# Altium footprint library Chip Components.PcbLib: 38 footprints (part 2 of 3)
Each footprint in its own frame and in the unit in brackets; x right, y up, seen from the top. Pads: shape width x height; smd on the part's side, far side on the other; paste and mask are expansions set on the pad; w line width, h text height; cw(c..) or ccw(c..) is an arc to the next point about the centre after c.
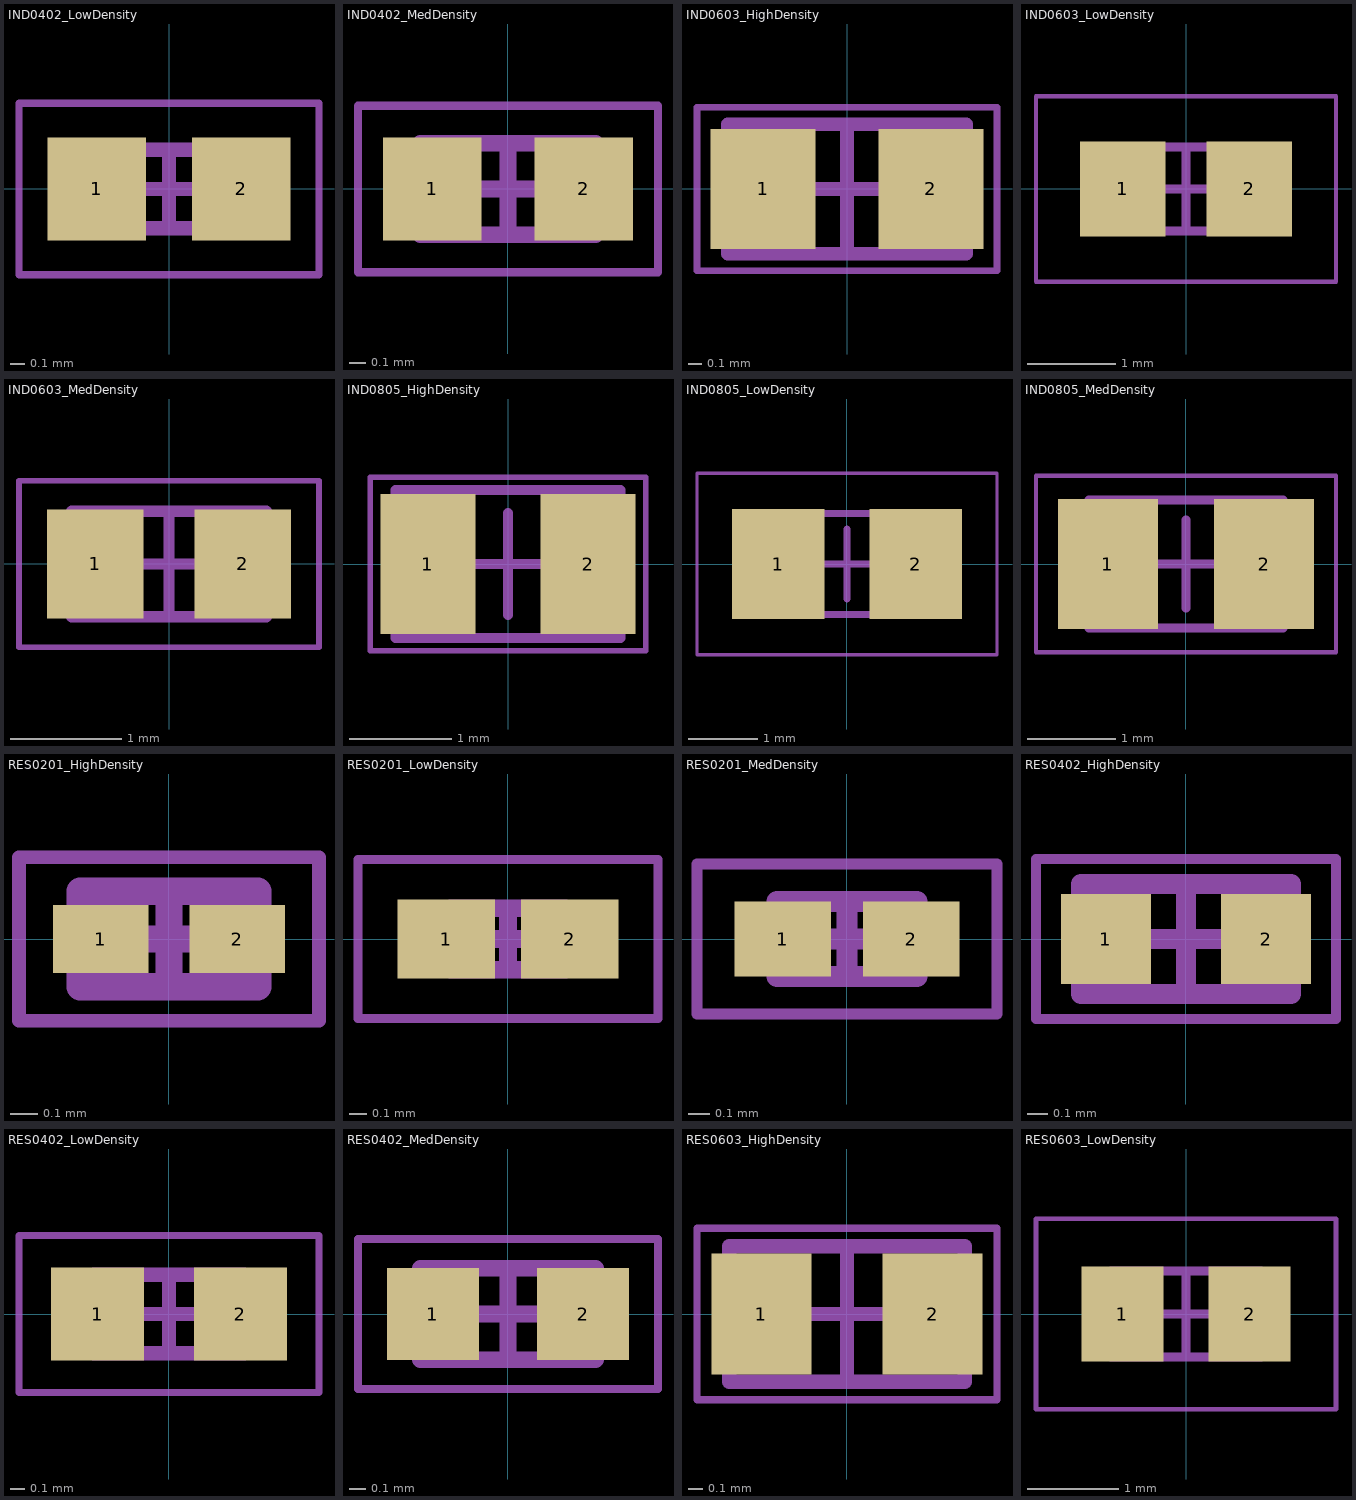
[diagram p1: the footprints below, top view; thin cyan lines are the x and y axes]

## IND0402_LowDensity [mm] "Chip Inductor, 2-Leads, Body 1,00x0,50mm, IPC Low Density"
height 0.55
pads (2):
  rect 0.69x0.72 smd: 1(-0.505,0) 2(0.505,0)
Mechanical 13:
  lines w0.1: -0.525,-0.275 0.525,-0.275 0.525,0.275 -0.525,0.275 -0.525,-0.275
Mechanical 15:
  lines w0.05: -1.05,-0.6 1.05,-0.6 1.05,0.6 -1.05,0.6 -1.05,-0.6
  lines w0.1: -0.275,0 0.275,0 ; 0,-0.275 0,0.275
3D body "INDC1005X06M.step": height 0.55, standoff 0, extent -0.525,-0.275 0.525,0.275

## IND0402_MedDensity [mm] "Chip Inductor, 2-Leads, Body 1,00x0,50mm, IPC Medium Density"
height 0.55
pads (2):
  rect 0.59x0.62 smd: 1(-0.455,0) 2(0.455,0)
Mechanical 13:
  lines w0.1: -0.525,-0.275 0.525,-0.275 0.525,0.275 -0.525,0.275 -0.525,-0.275
Mechanical 15:
  lines w0.05: -0.9,-0.5 0.9,-0.5 0.9,0.5 -0.9,0.5 -0.9,-0.5
  lines w0.1: -0.275,0 0.275,0 ; 0,-0.275 0,0.275
3D body "INDC1005X06N.step": height 0.55, standoff 0, extent -0.525,-0.275 0.525,0.275

## IND0603_HighDensity [mm] "Chip Inductor, 2-Leads, Body 1,60x0,80mm, IPC High Density"
height 0.95
pads (2):
  rect 0.77x0.88 smd: 1(-0.615,0) 2(0.615,0)
Mechanical 13:
  lines w0.1: -0.875,-0.475 0.875,-0.475 0.875,0.475 -0.875,0.475 -0.875,-0.475
Mechanical 15:
  lines w0.05: -1.1,-0.6 1.1,-0.6 1.1,0.6 -1.1,0.6 -1.1,-0.6
  lines w0.1: -0.475,0 0.475,0 ; 0,-0.475 0,0.475
3D body "INDC1608X09L.step": height 0.95, standoff 0, extent -0.875,-0.475 0.875,0.475

## IND0603_LowDensity [mm] "Chip Inductor, 2-Leads, Body 1,60x0,80mm, IPC Low Density"
height 0.95
pads (2):
  rect 0.97x1.08 smd: 1(-0.715,0) 2(0.715,0)
Mechanical 13:
  lines w0.1: -0.875,-0.475 0.875,-0.475 0.875,0.475 -0.875,0.475 -0.875,-0.475
Mechanical 15:
  lines w0.05: -1.7,-1.05 1.7,-1.05 1.7,1.05 -1.7,1.05 -1.7,-1.05
  lines w0.1: -0.475,0 0.475,0 ; 0,-0.475 0,0.475
3D body "INDC1608X09M.step": height 0.95, standoff 0, extent -0.875,-0.475 0.875,0.475

## IND0603_MedDensity [mm] "Chip Inductor, 2-Leads, Body 1,60x0,80mm, IPC Medium Density"
height 0.95
pads (2):
  rect 0.87x0.98 smd: 1(-0.665,0) 2(0.665,0)
Mechanical 13:
  lines w0.1: -0.875,-0.475 0.875,-0.475 0.875,0.475 -0.875,0.475 -0.875,-0.475
Mechanical 15:
  lines w0.05: -1.35,-0.75 1.35,-0.75 1.35,0.75 -1.35,0.75 -1.35,-0.75
  lines w0.1: -0.475,0 0.475,0 ; 0,-0.475 0,0.475
3D body "INDC1608X09N.step": height 0.95, standoff 0, extent -0.875,-0.475 0.875,0.475

## IND0805_HighDensity [mm] "Chip Inductor, 2-Leads, Body 2,00x1,25mm, IPC High Density"
height 1.05
pads (2):
  rect 0.93x1.37 smd: 1(-0.785,0) 2(0.785,0)
Mechanical 13:
  lines w0.1: -1.1,-0.725 1.1,-0.725 1.1,0.725 -1.1,0.725 -1.1,-0.725
Mechanical 15:
  lines w0.05: -1.35,-0.85 1.35,-0.85 1.35,0.85 -1.35,0.85 -1.35,-0.85
  lines w0.1: -0.5,0 0.5,0 ; 0,-0.5 0,0.5
3D body "INDC2012X11L.step": height 1.05, standoff 0, extent -1.1,-0.725 1.1,0.725

## IND0805_LowDensity [mm] "Chip Inductor, 2-Leads, Body 2,00x1,25mm, IPC Low Density"
height 1.05
pads (2):
  rect 1.33x1.57 smd: 1(-0.985,0) 2(0.985,0)
Mechanical 13:
  lines w0.1: -1.1,-0.725 1.1,-0.725 1.1,0.725 -1.1,0.725 -1.1,-0.725
Mechanical 15:
  lines w0.05: -2.15,-1.3 2.15,-1.3 2.15,1.3 -2.15,1.3 -2.15,-1.3
  lines w0.1: -0.5,0 0.5,0 ; 0,-0.5 0,0.5
3D body "INDC2012X11M.step": height 1.05, standoff 0, extent -1.1,-0.725 1.1,0.725

## IND0805_MedDensity [mm] "Chip Inductor, 2-Leads, Body 2,00x1,25mm, IPC Medium Density"
height 1.05
pads (2):
  rect 1.13x1.47 smd: 1(-0.885,0) 2(0.885,0)
Mechanical 13:
  lines w0.1: -1.1,-0.725 1.1,-0.725 1.1,0.725 -1.1,0.725 -1.1,-0.725
Mechanical 15:
  lines w0.05: -1.7,-1 1.7,-1 1.7,1 -1.7,1 -1.7,-1
  lines w0.1: -0.5,0 0.5,0 ; 0,-0.5 0,0.5
3D body "INDC2012X11N.step": height 1.05, standoff 0, extent -1.1,-0.725 1.1,0.725

## RES0201_HighDensity [mm] "Chip Resistor, 2-Leads, Body 0,60x0,30mm, IPC High Density"
height 0.28
pads (2):
  rect 0.35x0.25 smd: 1(-0.25,0) 2(0.25,0)
Mechanical 13:
  lines w0.1: -0.325,-0.175 0.325,-0.175 0.325,0.175 -0.325,0.175 -0.325,-0.175
Mechanical 15:
  lines w0.05: -0.55,-0.3 0.55,-0.3 0.55,0.3 -0.55,0.3 -0.55,-0.3
  lines w0.1: -0.175,0 0.175,0 ; 0,-0.175 0,0.175
3D body "RESC0603X03L.step": height 0.28, standoff 0, extent -0.325,-0.175 0.325,0.175

## RES0201_LowDensity [mm] "Chip Resistor, 2-Leads, Body 0,60x0,30mm, IPC Low Density"
height 0.28
pads (2):
  rect 0.55x0.45 smd: 1(-0.35,0) 2(0.35,0)
Mechanical 13:
  lines w0.1: -0.325,-0.175 0.325,-0.175 0.325,0.175 -0.325,0.175 -0.325,-0.175
Mechanical 15:
  lines w0.05: -0.85,-0.45 0.85,-0.45 0.85,0.45 -0.85,0.45 -0.85,-0.45
  lines w0.1: -0.175,0 0.175,0 ; 0,-0.175 0,0.175
3D body "RESC0603X03M.step": height 0.28, standoff 0, extent -0.325,-0.175 0.325,0.175

## RES0201_MedDensity [mm] "Chip Resistor, 2-Leads, Body 0,60x0,30mm, IPC Medium Density"
height 0.28
pads (2):
  rect 0.45x0.35 smd: 1(-0.3,0) 2(0.3,0)
Mechanical 13:
  lines w0.1: -0.325,-0.175 0.325,-0.175 0.325,0.175 -0.325,0.175 -0.325,-0.175
Mechanical 15:
  lines w0.05: -0.7,-0.35 0.7,-0.35 0.7,0.35 -0.7,0.35 -0.7,-0.35
  lines w0.1: -0.175,0 0.175,0 ; 0,-0.175 0,0.175
3D body "RESC0603X03N.step": height 0.28, standoff 0, extent -0.325,-0.175 0.325,0.175

## RES0402_HighDensity [mm] "Chip Resistor, 2-Leads, Body 1,00x0,50mm, IPC High Density"
height 0.4
pads (2):
  rect 0.45x0.45 smd: 1(-0.4,0) 2(0.4,0)
Mechanical 13:
  lines w0.1: -0.525,-0.275 0.525,-0.275 0.525,0.275 -0.525,0.275 -0.525,-0.275
Mechanical 15:
  lines w0.05: -0.75,-0.4 0.75,-0.4 0.75,0.4 -0.75,0.4 -0.75,-0.4
  lines w0.1: -0.275,0 0.275,0 ; 0,-0.275 0,0.275
3D body "RESC1005X04L.step": height 0.4, standoff 0, extent -0.525,-0.275 0.525,0.275

## RES0402_LowDensity [mm] "Chip Resistor, 2-Leads, Body 1,00x0,50mm, IPC Low Density"
height 0.4
pads (2):
  rect 0.65x0.65 smd: 1(-0.5,0) 2(0.5,0)
Mechanical 13:
  lines w0.1: -0.525,-0.275 -0.525,0.275 0.525,0.275 0.525,-0.275 -0.525,-0.275
Mechanical 15:
  lines w0.05: -1.05,-0.55 -1.05,0.55 1.05,0.55 1.05,-0.55 -1.05,-0.55
  lines w0.1: -0.275,0 0.275,0 ; 0,-0.275 0,0.275
3D body "RESC1005X04M.step": height 0.4, standoff 0, extent -0.525,-0.275 0.525,0.275

## RES0402_MedDensity [mm] "Chip Resistor, 2-Leads, Body 1,00x0,50mm, IPC Medium Density"
height 0.4
pads (2):
  rect 0.55x0.55 smd: 1(-0.45,0) 2(0.45,0)
Mechanical 13:
  lines w0.1: -0.525,-0.275 0.525,-0.275 0.525,0.275 -0.525,0.275 -0.525,-0.275
Mechanical 15:
  lines w0.05: -0.9,-0.45 0.9,-0.45 0.9,0.45 -0.9,0.45 -0.9,-0.45
  lines w0.1: -0.275,0 0.275,0 ; 0,-0.275 0,0.275
3D body "RESC1005X04N.step": height 0.4, standoff 0, extent -0.525,-0.275 0.525,0.275

## RES0603_HighDensity [mm] "Chip Resistor, 2-Leads, Body 1,57x0,85mm, IPC High Density"
height 0.5
pads (2):
  rect 0.7x0.85 smd: 1(-0.6,0) 2(0.6,0)
Mechanical 13:
  lines w0.1: -0.825,-0.475 0.825,-0.475 0.825,0.475 -0.825,0.475 -0.825,-0.475
Mechanical 15:
  lines w0.05: -1.05,-0.6 1.05,-0.6 1.05,0.6 -1.05,0.6 -1.05,-0.6
  lines w0.1: -0.475,0 0.475,0 ; 0,-0.475 0,0.475
3D body "RESC1608X05L.step": height 0.5, standoff 0, extent -0.825,-0.475 0.825,0.475

## RES0603_LowDensity [mm] "Chip Resistor, 2-Leads, Body 1,57x0,85mm, IPC Low Density"
height 0.5
pads (2):
  rect 0.9x1.05 smd: 1(-0.7,0) 2(0.7,0)
Mechanical 13:
  lines w0.1: -0.825,-0.475 0.825,-0.475 0.825,0.475 -0.825,0.475 -0.825,-0.475
Mechanical 15:
  lines w0.05: -1.65,-1.05 1.65,-1.05 1.65,1.05 -1.65,1.05 -1.65,-1.05
  lines w0.1: -0.475,0 0.475,0 ; 0,-0.475 0,0.475
3D body "RESC1608X05M.step": height 0.5, standoff 0, extent -0.825,-0.475 0.825,0.475